# EAGLE library part 9669-50 (library impellimax-drivers)
Please contact factory for your specific package and pinout needs. www.impellimax.com 603-886-9569
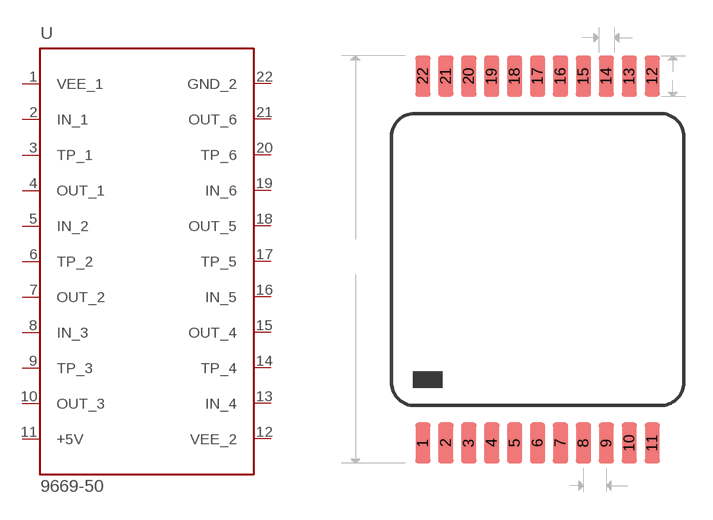
[diagram p11: symbol with the pads of 7408_C136; footprint 7408_C136]

Designator prefix U

## 9669-50  [7408_C136]
1  VEE_1  in
2  IN_1  in
3  TP_1  in
4  OUT_1  in
5  IN_2  pas
6  TP_2  in
7  OUT_2  in
8  IN_3  in
9  TP_3  in
10  OUT_3  in
11  +5V  pas
12  VEE_2  in
13  IN_4  in
14  TP_4  in
15  OUT_4  in
16  IN_5  in
17  TP_5  in
18  OUT_5  in
19  IN_6  in
20  TP_6  in
21  OUT_6  in
22  GND_2  in

## Footprint 7408_C136 (pad centres in mm)
package .645 max square actual lead to lead length .825 - .845 foot length .030 - .050, land pattern .090 lead width .012 - .020, land pattern width .034
smd 0.864 x 2.286: 1 -6.351,-10.162; 2 -5.081,-10.158; 3 -3.811,-10.162; 4 -2.541,-10.158; 5 -1.269,-10.161; 6 0.001,-10.163; 7 1.267,-10.161; 8 2.538,-10.163; 9 3.809,-10.161; 10 5.079,-10.162; 11 6.349,-10.158; 12 6.349,10.162; 13 5.079,10.158; 14 3.808,10.158; 15 2.538,10.158; 16 1.268,10.158; 17 0.001,10.158; 18 -1.272,10.158; 19 -2.542,10.158; 20 -3.812,10.158; 21 -5.081,10.162; 22 -6.351,10.158